# Altium integrated library 2N7002.IntLib: 1 symbol
Pins are listed as number, name and electrical type; pins without a type are passive.

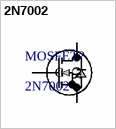
[diagram p0: symbol 2N7002]

## 2N7002
designator MOSFET?
Description; Manufacturer_Name: onsemi; Copyright: Copyright (C) 2026 Ultra Librarian. All rights reserved.; Manufacturer_Part_Number: 2N7002
footprint SOT-23TO-236_318-08_ONS
pins: 1 G, 2 S, 3 D